# EAGLE library part 01-100421-00 (library RFID)
edit this description Auto generated by make-symbol-device-package-bsdl.ulp Rev. 43 Source:
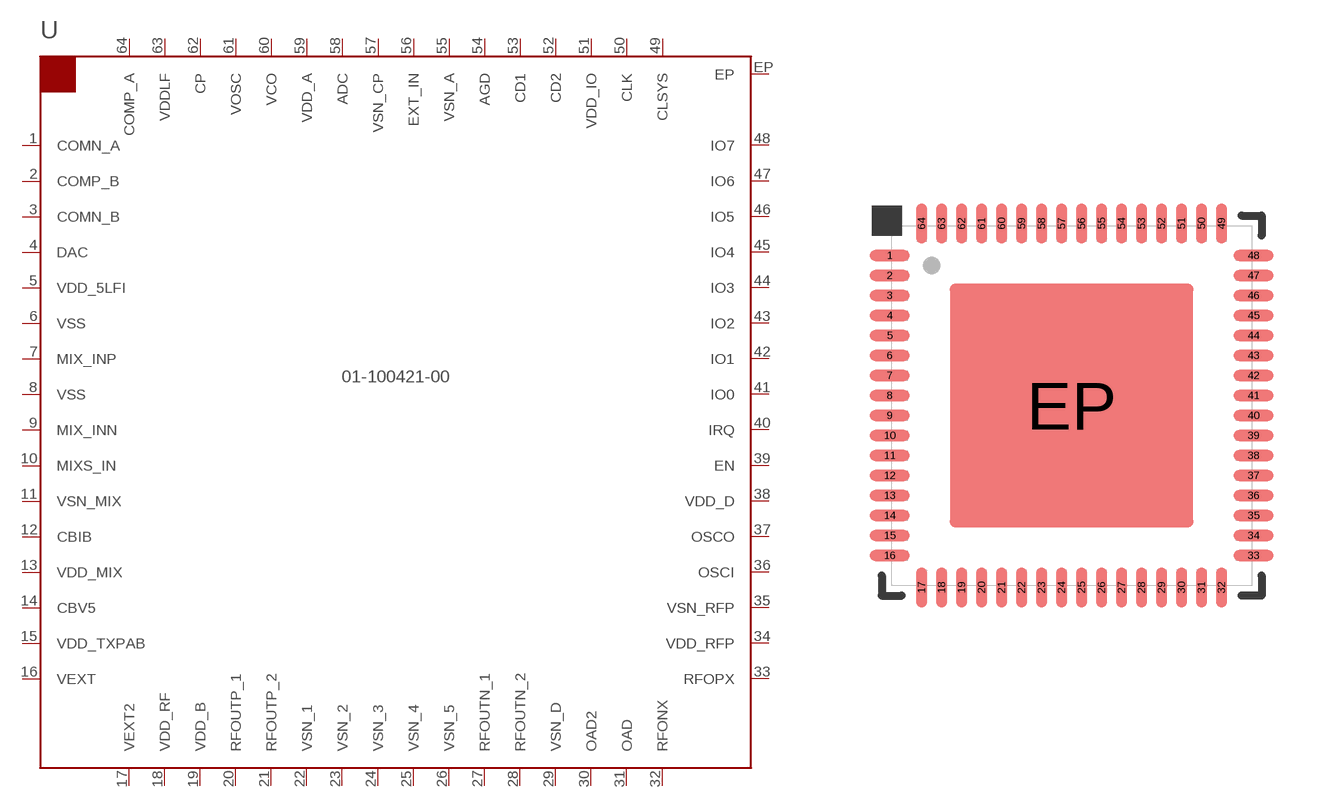
[diagram p4: symbol with the pads of QFN-64-EP; footprint QFN-64-EP]

Designator prefix U

## 01-100421-00-A  [QFN-64-EP]
1  COMN_A
2  COMP_B
3  COMN_B
4  DAC  out
5  VDD_5LFI  pwr
6  VSS  pwr
7  MIX_INP  in
8  VSS  pwr
9  MIX_INN  in
10  MIXS_IN  in
11  VSN_MIX  pwr
12  CBIB
13  VDD_MIX  pwr
14  CBV5
15  VDD_TXPAB  pwr
16  VEXT  pwr
17  VEXT2  pwr
18  VDD_RF  pwr
19  VDD_B  pwr
20  RFOUTP_1  out
21  RFOUTP_2  out
22  VSN_1  pwr
23  VSN_2  pwr
24  VSN_3  pwr
25  VSN_4  pwr
26  VSN_5  pwr
27  RFOUTN_1  out
28  RFOUTN_2  out
29  VSN_D  pwr
30  OAD2
31  OAD
32  RFONX  out
33  RFOPX  out
34  VDD_RFP  pwr
35  VSN_RFP  pwr
36  OSCI  in
37  OSCO
38  VDD_D  pwr
39  EN  in
40  IRQ  out
41  IO0
42  IO1
43  IO2
44  IO3
45  IO4
46  IO5
47  IO6
48  IO7
49  CLSYS  out
50  CLK  in
51  VDD_IO  pwr
52  CD2
53  CD1
54  AGD
55  VSN_A  pwr
56  EXT_IN  in
57  VSN_CP  pwr
58  ADC  in
59  VDD_A  pwr
60  VCO  in
61  VOSC
62  CP  out
63  VDDLF  pwr
64  COMP_A
EP  EP

## Footprint QFN-64-EP (pad centres in mm)
QFN-64 Auto generated by make-symbol-device-package-bsdl.ulp Rev. 43 -Added exposed pad -Changed tPlace and text Package Settings: L/L1 - 9 D/D1 - 8.2 m - 0 b - 0.25 e - 0.5 w - 0.5 x - 0.9 y - 0.35 r - 100
smd 1 x 0.28: 1 -4.55,3.75; 2 -4.55,3.25; 3 -4.55,2.75; 4 -4.55,2.25; 5 -4.55,1.75; 6 -4.55,1.25; 7 -4.55,0.75; 8 -4.55,0.25; 9 -4.55,-0.25; 10 -4.55,-0.75; 11 -4.55,-1.25; 12 -4.55,-1.75; 13 -4.55,-2.25; 14 -4.55,-2.75; 15 -4.55,-3.25; 16 -4.55,-3.75; 33 4.55,-3.75; 34 4.55,-3.25; 35 4.55,-2.75; 36 4.55,-2.25; 37 4.55,-1.75; 38 4.55,-1.25; 39 4.55,-0.75; 40 4.55,-0.25; 41 4.55,0.25; 42 4.55,0.75; 43 4.55,1.25; 44 4.55,1.75; 45 4.55,2.25; 46 4.55,2.75; 47 4.55,3.25; 48 4.55,3.75
smd 0.28 x 1: 17 -3.75,-4.55; 18 -3.25,-4.55; 19 -2.75,-4.55; 20 -2.25,-4.55; 21 -1.75,-4.55; 22 -1.25,-4.55; 23 -0.75,-4.55; 24 -0.25,-4.55; 25 0.25,-4.55; 26 0.75,-4.55; 27 1.25,-4.55; 28 1.75,-4.55; 29 2.25,-4.55; 30 2.75,-4.55; 31 3.25,-4.55; 32 3.75,-4.55; 49 3.75,4.55; 50 3.25,4.55; 51 2.75,4.55; 52 2.25,4.55; 53 1.75,4.55; 54 1.25,4.55; 55 0.75,4.55; 56 0.25,4.55; 57 -0.25,4.55; 58 -0.75,4.55; 59 -1.25,4.55; 60 -1.75,4.55; 61 -2.25,4.55; 62 -2.75,4.55; 63 -3.25,4.55; 64 -3.75,4.55
smd 6.1 x 6.1: EP 0,0